# EAGLE library part A2000/500_ROM (library Amiga)
A2000 & A500 MASK ROM http://www.amiga-stuff.com/hardware/2mbit-maskrom.html
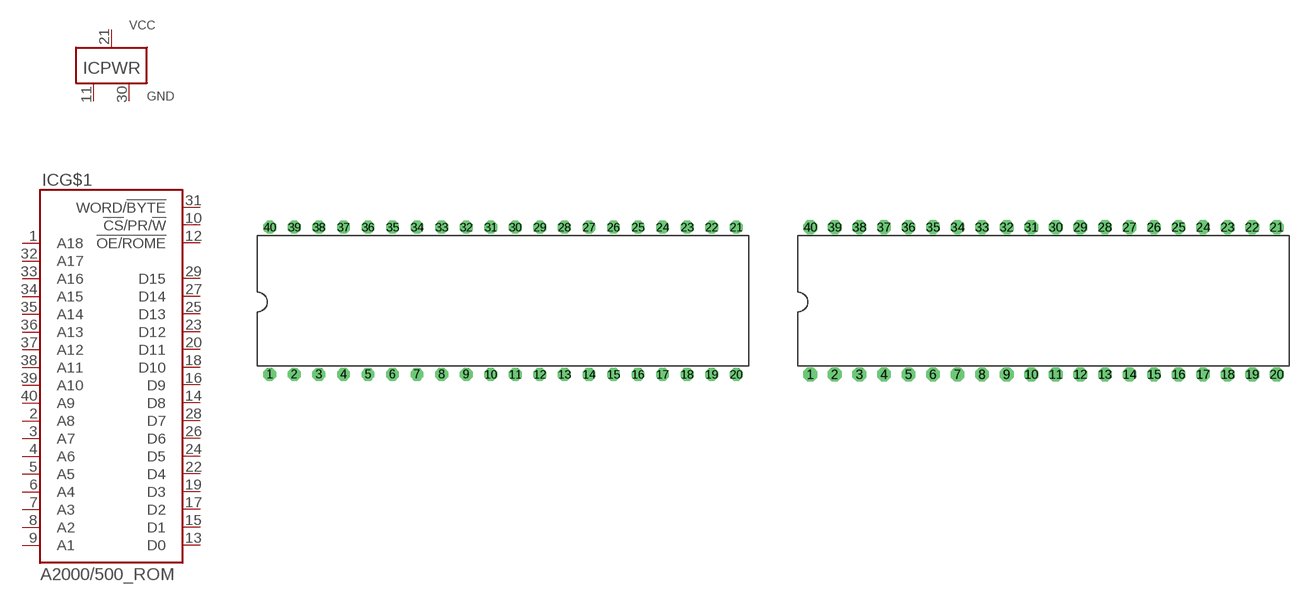
[diagram p10: symbol with the pads of DIL40; footprints DIL40, DIP-WIDE-HOLE]

Designator prefix IC; gates G$1=27C400 PWR=1VCC-2GND

## A2000/500_ROM27C400  [DIL40]
1  G$1:A18
2  G$1:A8
3  G$1:A7
4  G$1:A6
5  G$1:A5
6  G$1:A4
7  G$1:A3
8  G$1:A2
9  G$1:A1
10  G$1:!CS!/PR/!W!
11  PWR:GND  pwr
12  G$1:!OE/ROME
13  G$1:D0
14  G$1:D8
15  G$1:D1
16  G$1:D9
17  G$1:D2
18  G$1:D10
19  G$1:D3
20  G$1:D11
21  PWR:VCC  pwr
22  G$1:D4
23  G$1:D12
24  G$1:D5
25  G$1:D13
26  G$1:D6
27  G$1:D14
28  G$1:D7
29  G$1:D15
30  PWR:GND  pwr
31  G$1:WORD/!BYTE
32  G$1:A17
33  G$1:A16
34  G$1:A15
35  G$1:A14
36  G$1:A13
37  G$1:A12
38  G$1:A11
39  G$1:A10
40  G$1:A9

## A2000/500_ROM27C4096  [DIL40]
1  G$1:WORD/!BYTE
2  G$1:!CS!/PR/!W!
3  G$1:D15
4  G$1:D14
5  G$1:D13
6  G$1:D12
7  G$1:D11
8  G$1:D10
9  G$1:D9
10  G$1:D8
11  PWR:GND  pwr
12  G$1:D7
13  G$1:D6
14  G$1:D5
15  G$1:D4
16  G$1:D3
17  G$1:D2
18  G$1:D1
19  G$1:D0
20  G$1:!OE/ROME
21  G$1:A1
22  G$1:A2
23  G$1:A3
24  G$1:A4
25  G$1:A5
26  G$1:A6
27  G$1:A7
28  G$1:A8
29  G$1:A9
30  PWR:GND  pwr
31  G$1:A10
32  G$1:A11
33  G$1:A12
34  G$1:A13
35  G$1:A14
36  G$1:A15
37  G$1:A16
38  G$1:A17
39  G$1:A18
40  PWR:VCC  pwr

## A2000/500_ROM27C400-WIDE  [DIP-WIDE-HOLE]
Pads as for DIL40

## A2000/500_ROM27C4096-WIDE  [DIP-WIDE-HOLE]
Pads as for DIL40

## A2000/500_ROM27C400_LABEL  [DIL40-ROM]
Pads as for DIL40

## A2000/500_ROM_PIN-INSERT  [DIP40-PIN_EMBEDDED]
Pads as for DIL40

## Footprint DIL40 (pad centres in mm)
Dual In Line Package
drill 0.813 octagon: 1 -24.13,-7.62; 2 -21.59,-7.62; 3 -19.05,-7.62; 4 -16.51,-7.62; 5 -13.97,-7.62; 6 -11.43,-7.62; 7 -8.89,-7.62; 8 -6.35,-7.62; 9 -3.81,-7.62; 10 -1.27,-7.62; 11 1.27,-7.62; 12 3.81,-7.62; 13 6.35,-7.62; 14 8.89,-7.62; 15 11.43,-7.62; 16 13.97,-7.62; 17 16.51,-7.62; 18 19.05,-7.62; 19 21.59,-7.62; 20 24.13,-7.62; 21 24.13,7.62; 22 21.59,7.62; 23 19.05,7.62; 24 16.51,7.62; 25 13.97,7.62; 26 11.43,7.62; 27 8.89,7.62; 28 6.35,7.62; 29 3.81,7.62; 30 1.27,7.62; 31 -1.27,7.62; 32 -3.81,7.62; 33 -6.35,7.62; 34 -8.89,7.62; 35 -11.43,7.62; 36 -13.97,7.62; 37 -16.51,7.62; 38 -19.05,7.62; 39 -21.59,7.62; 40 -24.13,7.62

## Footprint DIP-WIDE-HOLE (pad centres in mm)
drill 0.914 octagon: 1 -22.86,-7.62; 2 -20.32,-7.62; 3 -17.78,-7.62; 4 -15.24,-7.62; 5 -12.7,-7.62; 6 -10.16,-7.62; 7 -7.62,-7.62; 8 -5.08,-7.62; 9 -2.54,-7.62; 10 0,-7.62; 11 2.54,-7.62; 12 5.08,-7.62; 13 7.62,-7.62; 14 10.16,-7.62; 15 12.7,-7.62; 16 15.24,-7.62; 17 17.78,-7.62; 18 20.32,-7.62; 19 22.86,-7.62; 20 25.4,-7.62; 21 25.4,7.62; 22 22.86,7.62; 23 20.32,7.62; 24 17.78,7.62; 25 15.24,7.62; 26 12.7,7.62; 27 10.16,7.62; 28 7.62,7.62; 29 5.08,7.62; 30 2.54,7.62; 31 0,7.62; 32 -2.54,7.62; 33 -5.08,7.62; 34 -7.62,7.62; 35 -10.16,7.62; 36 -12.7,7.62; 37 -15.24,7.62; 38 -17.78,7.62; 39 -20.32,7.62; 40 -22.86,7.62

## Footprint DIL40-ROM (pad centres in mm)
drill 0.813 octagon: 1 -22.86,-7.62; 2 -20.32,-7.62; 3 -17.78,-7.62; 4 -15.24,-7.62; 5 -12.7,-7.62; 6 -10.16,-7.62; 7 -7.62,-7.62; 8 -5.08,-7.62; 9 -2.54,-7.62; 10 0,-7.62; 11 2.54,-7.62; 12 5.08,-7.62; 13 7.62,-7.62; 14 10.16,-7.62; 15 12.7,-7.62; 16 15.24,-7.62; 17 17.78,-7.62; 18 20.32,-7.62; 19 22.86,-7.62; 20 25.4,-7.62; 21 25.4,7.62; 22 22.86,7.62; 23 20.32,7.62; 24 17.78,7.62; 25 15.24,7.62; 26 12.7,7.62; 27 10.16,7.62; 28 7.62,7.62; 29 5.08,7.62; 30 2.54,7.62; 31 0,7.62; 32 -2.54,7.62; 33 -5.08,7.62; 34 -7.62,7.62; 35 -10.16,7.62; 36 -12.7,7.62; 37 -15.24,7.62; 38 -17.78,7.62; 39 -20.32,7.62; 40 -22.86,7.62

## Footprint DIP40-PIN_EMBEDDED (pad centres in mm)
drill 1.4 octagon: 1 -22.86,-7.62; 2 -20.32,-7.62; 3 -17.78,-7.62; 4 -15.24,-7.62; 5 -12.7,-7.62; 6 -10.16,-7.62; 7 -7.62,-7.62; 8 -5.08,-7.62; 9 -2.54,-7.62; 10 0,-7.62; 11 2.54,-7.62; 12 5.08,-7.62; 13 7.62,-7.62; 14 10.16,-7.62; 15 12.7,-7.62; 16 15.24,-7.62; 17 17.78,-7.62; 18 20.32,-7.62; 19 22.86,-7.62; 20 25.4,-7.62; 21 25.4,7.62; 22 22.86,7.62; 23 20.32,7.62; 24 17.78,7.62; 25 15.24,7.62; 26 12.7,7.62; 27 10.16,7.62; 28 7.62,7.62; 29 5.08,7.62; 30 2.54,7.62; 31 0,7.62; 32 -2.54,7.62; 33 -5.08,7.62; 34 -7.62,7.62; 35 -10.16,7.62; 36 -12.7,7.62; 37 -15.24,7.62; 38 -17.78,7.62; 39 -20.32,7.62; 40 -22.86,7.62